# EAGLE library part TPS2115 (library My_TI)
AUTOSWITCHING POWER MULTIPLEXER. Wide Operating Voltage Range: 2.8 V to 5.5 V. Adjustable Current Limit. Low Standby Current: 0.5 µA Typical. http://www.ti.com/lit/ds/symlink/tps2115.pdf
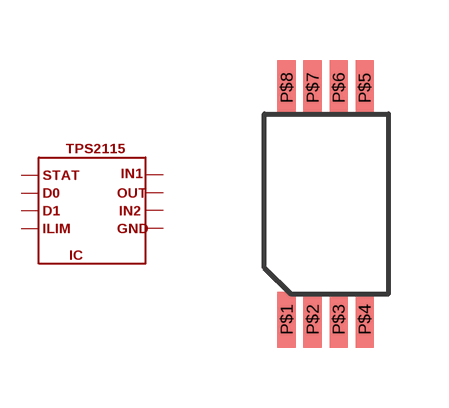
[diagram p17: symbol with the pads of TSSOP8; footprint TSSOP8]

Designator prefix IC

## TPS2115  [TSSOP8]
P$1  P$1
P$2  P$2
P$3  P$3
P$4  P$4
P$5  P$5
P$6  P$6
P$7  P$7
P$8  P$8

## Footprint TSSOP8 (pad centres in mm)
smd 0.45 x 1.4: P$1 -1,-3; P$2 -0.35,-3; P$3 0.3,-3; P$4 0.95,-3; P$5 0.95,2.8; P$6 0.3,2.8; P$7 -0.35,2.8; P$8 -1,2.8